# Altium footprint library Connectors.PcbLib: 11 footprints
Each footprint in its own frame and in the unit in brackets; x right, y up, seen from the top. Pads: shape width x height; smd on the part's side, far side on the other; paste and mask are expansions set on the pad; w line width, h text height; cw(c..) or ccw(c..) is an arc to the next point about the centre after c.
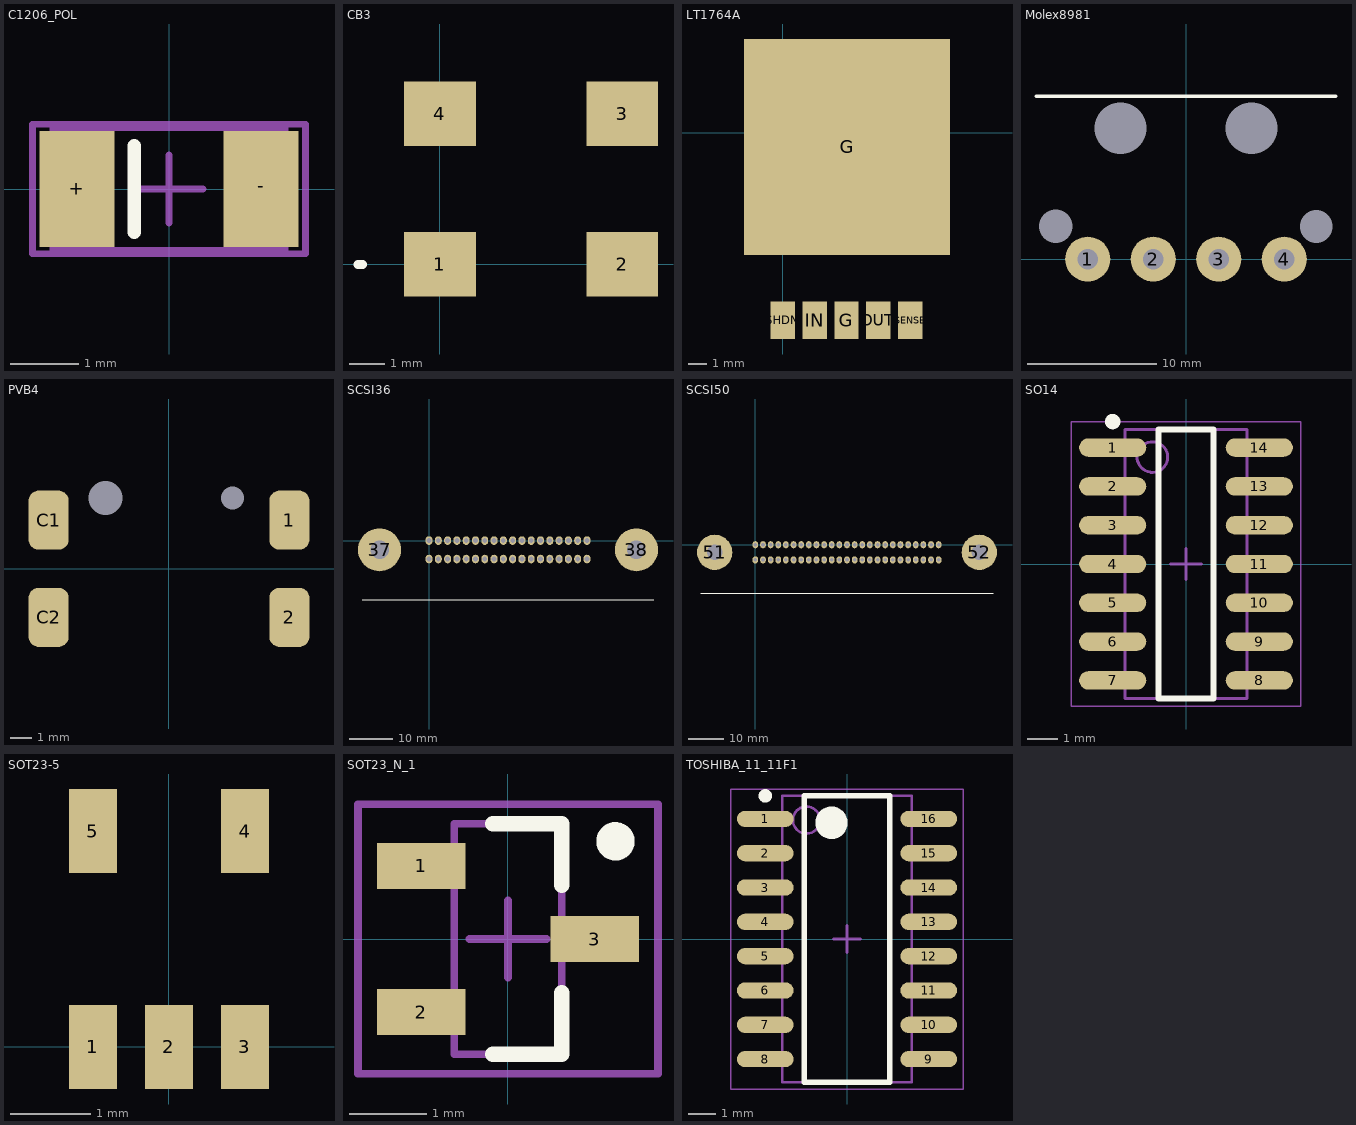
[diagram p0: the footprints below, top view; thin cyan lines are the x and y axes]

## C1206_POL [mm] "Chip Capacitor, Body 3.2x1.6mm, IPC High Density"
height 1.3
pads (2):
  rect 1.1x1.7 smd: +(-1.35,0) -(1.35,0)
Top Overlay:
  lines w0.2: -0.508,-0.635 -0.508,0.635
Mechanical 13:
  lines w0.1: -1.7,-0.9 1.7,-0.9 1.7,0.9 -1.7,0.9 -1.7,-0.9
Mechanical 15:
  lines w0.1: -0.5,0 0.5,0 ; 0,-0.5 0,0.5 ; -2,-0.95 2,-0.95 2,0.95 -2,0.95 -2,-0.95
3D body: height 1.3, standoff 0, extent -1.7,-0.9 1.7,0.9

## CB3 [mm]
pads (4):
  rect 2x1.8 smd: 1(0,0) 2(5.08,0) 3(5.08,4.2) 4(0,4.2)
Top Overlay:
  lines w0.254: -2.286,0 -2.159,0

## LT1764A [mm]
height 8
pads (6):
  rect 1.3x2 smd: G(3.4,-10) IN(1.7,-10) OUT(5.1,-10) SENSE(6.8,-10) SHDN(0,-10)
  rect 11x11.5 smd: G(3.429,-0.762)

## Molex8981 [mm]
height 12
pads (8):
  round 0 hole 2.6: 0(-10.1,2.54)
  round 0 hole 4: 0(-5.08,10.16) 0(5.08,10.16)
  round 0 hole 2.54: 0(10.1,2.54)
  round 3.5 hole 1.6: 1(-7.62,0) 2(-2.54,0) 3(2.54,0) 4(7.62,0)
Top Overlay:
  lines w0.254: -11.63,12.63 11.63,12.63

## PVB4 [mm]
pads (6):
  rrect50% 1.9x2.8 smd: 1(5.7,2.3) 2(5.7,-2.3) C1(-5.7,2.3) C2(-5.7,-2.3)
  round 0 hole 1.6: ""(-3,3.35)
  round 0 hole 1.1: ""(3,3.35)

## SCSI36 [mm]
pads (38):
  oval 1.6x2 hole 1.1: 1(0,0) 2(2.16,0) 3(4.32,0) 4(6.48,0) 5(8.64,0) 6(10.8,0) 7(12.96,0) 8(15.12,0) 9(17.28,0) 10(19.44,0) 11(21.6,0) 12(23.76,0) 13(25.92,0) 14(28.08,0) 15(30.24,0) 16(32.4,0) 17(34.56,0) 18(36.72,0) 19(36.72,-4.293) 20(34.56,-4.293) 21(32.4,-4.293) 22(30.24,-4.293) 23(28.08,-4.293) 24(25.92,-4.293) 25(23.76,-4.293) 26(21.6,-4.293) 27(19.44,-4.293) 28(17.28,-4.293) 29(15.12,-4.293) 30(12.96,-4.293) 31(10.8,-4.293) 32(8.64,-4.293) 33(6.48,-4.293) 34(4.32,-4.293) 35(2.16,-4.293) 36(0,-4.293)
  round 10 hole 4.3: 37(-11.51,-2.145) 38(48.23,-2.145)
Top Overlay:
  lines w0.254: -15.515,-13.75 52.235,-13.75

## SCSI50 [mm]
pads (52):
  oval 1.6x2 hole 1: 1(0,0) 2(2.16,0) 3(4.32,0) 4(6.48,0) 5(8.64,0) 6(10.8,0) 7(12.96,0) 8(15.12,0) 9(17.28,0) 10(19.44,0) 11(21.6,0) 12(23.76,0) 13(25.92,0) 14(28.08,0) 15(30.24,0) 16(32.4,0) 17(34.56,0) 18(36.72,0) 19(38.887,0) 20(41.047,0) 21(43.207,0) 22(45.367,0) 23(47.527,0) 24(49.687,0) 25(51.847,0) 26(51.847,-4.293) 27(49.687,-4.293) 28(47.527,-4.293) 29(45.367,-4.293) 30(43.207,-4.293) 31(41.047,-4.293) 32(38.887,-4.293) 33(36.72,-4.293) 34(34.56,-4.293) 35(32.4,-4.293) 36(30.24,-4.293) 37(28.08,-4.293) 38(25.92,-4.293) 39(23.76,-4.293) 40(21.6,-4.293) 41(19.44,-4.293) 42(17.28,-4.293) 43(15.12,-4.293) 44(12.96,-4.293) 45(10.8,-4.293) 46(8.64,-4.293) 47(6.48,-4.293) 48(4.32,-4.293) 49(2.16,-4.293) 50(0,-4.293)
  round 10 hole 4.3: 51(-11.51,-2.145) 52(63.35,-2.145)
Top Overlay:
  lines w0.254: -15.515,-13.75 67.355,-13.75

## SO14 [mm] "SOIC, 14-Leads, Body 8.65x3.90mm, Pitch 1.27mm, IPC Medium Density"
height 1.75
pads (14):
  oval 2.2x0.6 smd: 1(-2.4,3.81) 2(-2.4,2.54) 3(-2.4,1.27) 4(-2.4,0) 5(-2.4,-1.27) 6(-2.4,-2.54) 7(-2.4,-3.81) 8(2.4,-3.81) 9(2.4,-2.54) 10(2.4,-1.27) 11(2.4,0) 12(2.4,1.27) 13(2.4,2.54) 14(2.4,3.81)
Top Overlay:
  circle w0.25: c-2.4,4.66 r0.125
  lines w0.2: -0.9,-4.4 -0.9,4.4 0.9,4.4 0.9,-4.4 -0.9,-4.4
Mechanical 13:
  circle w0.1: c-1.1,3.5 r0.5
  lines w0.1: -2,-4.4 -2,4.4 2,4.4 2,-4.4 -2,-4.4
Mechanical 15:
  lines w0.05: -3.75,-4.65 -3.75,4.65 3.75,4.65 3.75,-4.65 -3.75,-4.65
  lines w0.1: -0.5,0 0.5,0 ; 0,-0.5 0,0.5
3D body: height 1.75, standoff 0.1, extent -2,-4.4 2,4.4

## SOT23-5 [mm]
height 7
pads (5):
  rect 0.6x1.05 smd mask+0.07: 1(-0.95,0) 2(0,0) 3(0.95,0) 4(0.955,2.7) 5(-0.95,2.7)

## SOT23_N_1 [mm] "SOT23, 3-Leads, Body 2.9x1.3mm, Pitch 0.95mm, Lead Span 2.3mm - Reverse Pinning, IPC Medium Density"
height 1.1
pads (3):
  rect 1.15x0.6 smd: 1(-1.125,0.95) 2(-1.125,-0.95) 3(1.125,0)
Top Overlay:
  circle w0.25: c1.397,1.27 r0.125
  lines w0.2: -0.2,-1.5 0.7,-1.5 0.7,-0.7 ; -0.2,1.5 0.7,1.5 0.7,0.7
Mechanical 13:
  lines w0.1: -0.7,-1.5 -0.7,1.5 0.7,1.5 0.7,-1.5 -0.7,-1.5
Mechanical 15:
  lines w0.1: -0.5,0 0.5,0 ; 0,-0.5 0,0.5 ; -1.95,-1.75 -1.95,1.75 1.95,1.75 1.95,-1.75 -1.95,-1.75
3D body: height 1.1, standoff 0, extent -0.7,-1.5 0.7,1.5

## TOSHIBA_11_11F1 [mm]
height 2.4
pads (16):
  oval 2.1x0.6 smd: 1(-3.025,4.445) 2(-3.025,3.175) 3(-3.025,1.905) 4(-3.025,0.635) 5(-3.025,-0.635) 6(-3.025,-1.905) 7(-3.025,-3.175) 8(-3.025,-4.445) 9(3.025,-4.445) 10(3.025,-3.175) 11(3.025,-1.905) 12(3.025,-0.635) 13(3.025,0.635) 14(3.025,1.905) 15(3.025,3.175) 16(3.025,4.445)
Top Overlay:
  circle w0.6: c-0.575,4.3 r0.3
  circle w0.25: c-3.025,5.295 r0.125
  lines w0.2: -1.575,-5.3 1.575,-5.3 1.575,5.3 -1.575,5.3 -1.575,-5.3
Mechanical 13:
  circle w0.1: c-1.5,4.4 r0.5
  lines w0.1: -2.4,-5.3 2.4,-5.3 2.4,5.3 -2.4,5.3 -2.4,-5.3
Mechanical 15:
  lines w0.05: -4.3,-5.55 4.3,-5.55 4.3,5.55 -4.3,5.55 -4.3,-5.55
  lines w0.1: -0.5,0 0.5,0 ; 0,-0.5 0,0.5
3D body: height 2.4, standoff 0.1, extent -2.4,-5.3 2.4,5.3